# EAGLE library part ADS1232 (library GW-devices)
ADS1232 differential ADAC
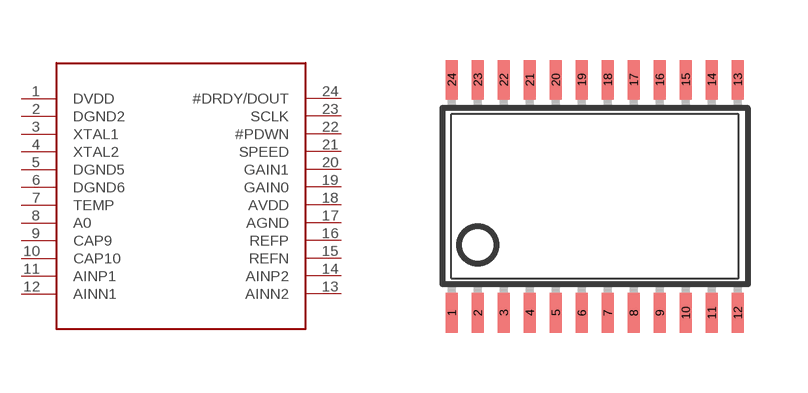
[diagram p16: symbol with the pads of TSSOP24; footprint TSSOP24]

Designator prefix -

## ADS1232TSOP24  [TSSOP24]
1  DVDD
2  DGND2
3  XTAL1
4  XTAL2
5  DGND5
6  DGND6
7  TEMP
8  A0
9  CAP9
10  CAP10
11  AINP1
12  AINN1
13  AINN2
14  AINP2
15  REFN
16  REFP
17  AGND
18  AVDD
19  GAIN0
20  GAIN1
21  SPEED
22  #PDWN
23  SCLK
24  #DRDY/DOUT

## Footprint TSSOP24 (pad centres in mm)
Thin Shrink Small Outline Plastic 24 MAX3223-MAX3243.pdf
smd 0.305 x 0.991: 1 -3.575,-2.918; 2 -2.925,-2.918; 3 -2.275,-2.918; 4 -1.625,-2.918; 5 -0.975,-2.918; 6 -0.325,-2.918; 7 0.325,-2.918; 8 0.975,-2.918; 9 1.625,-2.918; 10 2.275,-2.918; 11 2.925,-2.918; 12 3.575,-2.918; 13 3.575,2.918; 14 2.925,2.918; 15 2.275,2.918; 16 1.625,2.918; 17 0.975,2.918; 18 0.325,2.918; 19 -0.325,2.918; 20 -0.975,2.918; 21 -1.625,2.918; 22 -2.275,2.918; 23 -2.925,2.918; 24 -3.575,2.918